# EAGLE library part AMPHENOL-T821M120A1S100CEU-B (library connectors)
Amphenol T821M120A1S100CEU -B 2x10 pin 2.54mm pitch 2.54mm row spacing IDC Male Vertical SMT
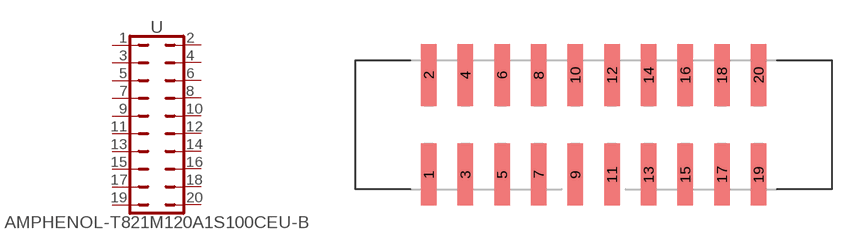
[diagram p1: symbol with the pads of AMPHENOL-T821M120A1S100CEU-B; footprint AMPHENOL-T821M120A1S100CEU-B]

Designator prefix -

## AMPHENOL-T821M120A1S100CEU-B  [AMPHENOL-T821M120A1S100CEU-B]
1  1
2  2
3  3
4  4
5  5
6  6
7  7
8  8
9  9
10  10
11  11
12  12
13  13
14  14
15  15
16  16
17  17
18  18
19  19
20  20

## Footprint AMPHENOL-T821M120A1S100CEU-B (pad centres in mm)
2x10 pin 2.54mm pitch 2.54mm row spacing IDC Male Vertical SMT
smd 1.07 x 4.3: 1 -11.43,-3.45; 2 -11.43,3.45; 3 -8.89,-3.45; 4 -8.89,3.45; 5 -6.35,-3.45; 6 -6.35,3.45; 7 -3.81,-3.45; 8 -3.81,3.45; 9 -1.27,-3.45; 10 -1.27,3.45; 11 1.27,-3.45; 12 1.27,3.45; 13 3.81,-3.45; 14 3.81,3.45; 15 6.35,-3.45; 16 6.35,3.45; 17 8.89,-3.45; 18 8.89,3.45; 19 11.43,-3.45; 20 11.43,3.45